# Altium schematic symbol library CAP_0.047uF_0603.SchLib: 1 symbol
Pins are listed as number, name and electrical type; pins without a type are passive.

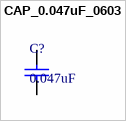
[diagram p0: symbol CAP_0.047uF_0603]

## CAP_0.047uF_0603
designator C?, comment 0.047uF
CAP CER 0.047UF 50V X7R 0603; Manufacturer: KEMET; Manufacturer Product Number: C0603C473K5RACTU; Supplier 1: DigiKey; Supplier Part Number 1: 399-C0603C473K5RACTUCT-ND
footprint Cap_0603_M (Yageo KEMET Maximum Density (Level A) Footprint, reference at pate centre. Datasheet: https://www.yageogroup.com/content/datasheet/asset/file/KEM_C1006_X5R_SMD)
footprint Cap_0603_N (Yageo KEMET Nominal Density Footprint using Nominal Land Protusion (Level B), reference at pate centre. Datasheet: https://www.yageogroup.com/content/datasheet/asset/file/KEM_C1006_X5R_SMD)
pins: 1, 2